# EAGLE library part DAC8832IRGYR (library open_covg)
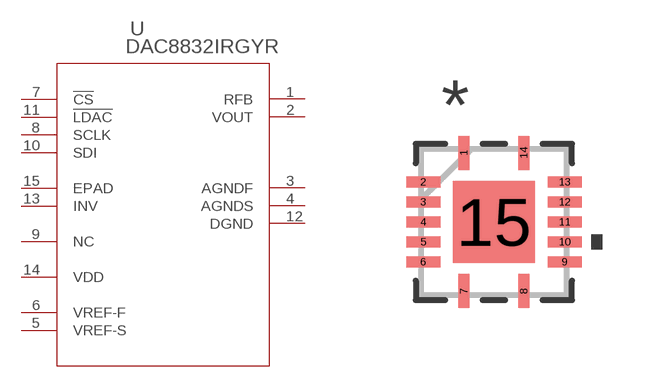
[diagram p4: symbol with the pads of RGY14_2P05X2P05; footprint RGY14_2P05X2P05]

Designator prefix U

## DAC8832IRGYR (BUILT_BY: EMA_UL_Team; MANUFACTURER: Texas Instruments; MANUFACTURER_PART_NUMBER: DAC8832IRGYR; VENDOR: Texas Instruments)  [RGY14_2P05X2P05]
1  RFB  out
2  VOUT  out
3  AGNDF  pwr
4  AGNDS  pwr
5  VREF-S  in
6  VREF-F  in
7  !CS  in
8  SCLK  in
9  NC  pas
10  SDI  in
11  !LDAC  in
12  DGND  pwr
13  INV  pas
14  VDD  pwr
15  EPAD  pas

## Footprint RGY14_2P05X2P05 (pad centres in mm)
smd 0.28 x 0.85: 1 -0.75,1.731; 7 -0.75,-1.731; 8 0.75,-1.731; 14 0.75,1.731
smd 0.85 x 0.28: 2 -1.769,1; 3 -1.769,0.5; 4 -1.769,0; 5 -1.769,-0.5; 6 -1.769,-1; 9 1.769,-1; 10 1.769,-0.5; 11 1.769,0; 12 1.769,0.5; 13 1.769,1
smd 2.05 x 2.05: 15 0,0